# Altium schematic symbol library SCH - MCU - NUVOTON - NUVOTON NUC125ZC2AE.SchLib: 1 symbol
Pins are listed as number, name and electrical type; pins without a type are passive.

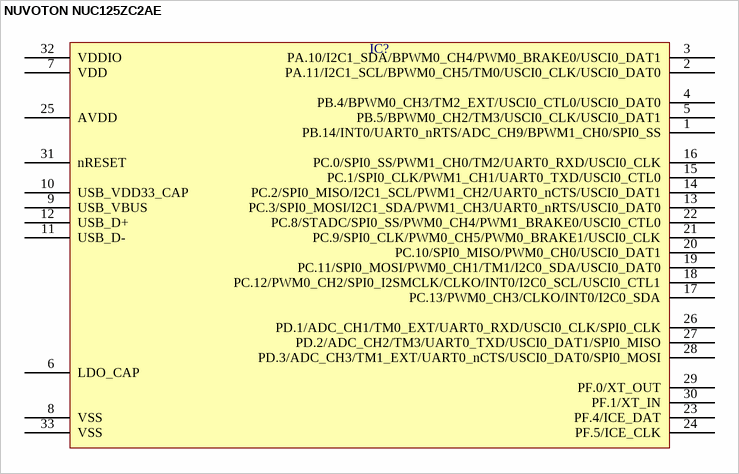
[diagram p0: symbol NUVOTON NUC125ZC2AE]

## NUVOTON NUC125ZC2AE
designator IC?  (value not drawn)
pins: 1 PB.14/INT0/UART0_nRTS/ADC_CH9/BPWM1_CH0/SPI0_SS, 2 PA.11/I2C1_SCL/BPWM0_CH5/TM0/USCI0_CLK/USCI0_DAT0, 3 PA.10/I2C1_SDA/BPWM0_CH4/PWM0_BRAKE0/USCI0_DAT1, 4 PB.4/BPWM0_CH3/TM2_EXT/USCI0_CTL0/USCI0_DAT0, 5 PB.5/BPWM0_CH2/TM3/USCI0_CLK/USCI0_DAT1, 6 LDO_CAP, 7 VDD, 8 VSS, 9 USB_VBUS, 10 USB_VDD33_CAP, 11 USB_D-, 12 USB_D+, 13 PC.3/SPI0_MOSI/I2C1_SDA/PWM1_CH3/UART0_nRTS/USCI0_DAT0, 14 PC.2/SPI0_MISO/I2C1_SCL/PWM1_CH2/UART0_nCTS/USCI0_DAT1, 15 PC.1/SPI0_CLK/PWM1_CH1/UART0_TXD/USCI0_CTL0, 16 PC.0/SPI0_SS/PWM1_CH0/TM2/UART0_RXD/USCI0_CLK, 17 PC.13/PWM0_CH3/CLKO/INT0/I2C0_SDA, 18 PC.12/PWM0_CH2/SPI0_I2SMCLK/CLKO/INT0/I2C0_SCL/USCI0_CTL1, 19 PC.11/SPI0_MOSI/PWM0_CH1/TM1/I2C0_SDA/USCI0_DAT0, 20 PC.10/SPI0_MISO/PWM0_CH0/USCI0_DAT1, 21 PC.9/SPI0_CLK/PWM0_CH5/PWM0_BRAKE1/USCI0_CLK, 22 PC.8/STADC/SPI0_SS/PWM0_CH4/PWM1_BRAKE0/USCI0_CTL0, 23 PF.4/ICE_DAT, 24 PF.5/ICE_CLK, 25 AVDD, 26 PD.1/ADC_CH1/TM0_EXT/UART0_RXD/USCI0_CLK/SPI0_CLK, 27 PD.2/ADC_CH2/TM3/UART0_TXD/USCI0_DAT1/SPI0_MISO, 28 PD.3/ADC_CH3/TM1_EXT/UART0_nCTS/USCI0_DAT0/SPI0_MOSI, 29 PF.0/XT_OUT, 30 PF.1/XT_IN, 31 nRESET, 32 VDDIO, 33 VSS